# Altium footprint library Посадочное место.PcbLib: 3 footprints
Each footprint in its own frame and in the unit in brackets; x right, y up, seen from the top. Pads: shape width x height; smd on the part's side, far side on the other; paste and mask are expansions set on the pad; w line width, h text height; cw(c..) or ccw(c..) is an arc to the next point about the centre after c.
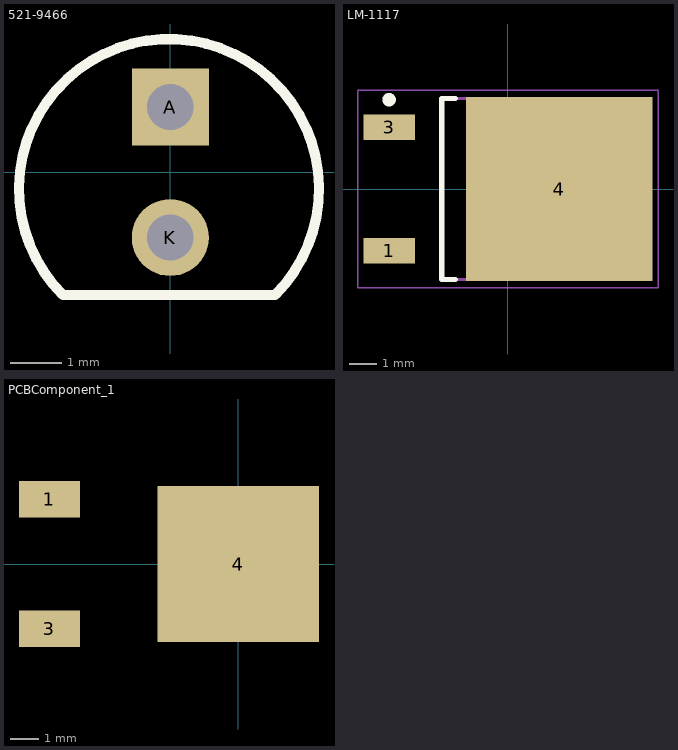
[diagram p0: the footprints below, top view; thin cyan lines are the x and y axes]

## 521-9466 [mm]
pads (2):
  rect 1.5x1.5 hole 0.9: A(0,1.27)
  round 1.5 hole 0.9: K(0,-1.27)
Top Overlay:
  lines w0.2: -2.09,-2.39 cw(c-0.025,-0.325) 2.04,-2.39 -2.09,-2.39
3D body "521-9466.step": height 10.71, standoff -0.6, extent -2.92,-2.415 2.92,2.92

## LM-1117 [mm] "D-PAK, 3-Pads, Body 6,20x6,72mm (max), IPC Medium Density"
height 2.38
pads (3):
  rect 1.9x0.95 smd: 1(-4.4,-2.28) 3(-4.4,2.28)
  rect 6.9x6.8 smd: 4(1.9,0)
Top Overlay:
  circle w0.25: c-4.4,3.305 r0.125
  lines w0.2: -1.95,-3.35 -2.45,-3.35 -2.45,3.35 -1.95,3.35
Mechanical 13:
  lines w0.1: -2.45,-3.35 3.75,-3.35 3.75,3.35 -2.45,3.35 -2.45,-3.35
Mechanical 15:
  lines w0.05: -5.55,-3.65 5.55,-3.65 5.55,3.65 -5.55,3.65 -5.55,-3.65
  lines w0.1: -0.5,0 0.5,0 ; 0,-0.5 0,0.5
3D body "DPAK228P970X238-3N.step": height 2.38, standoff 0, extent -4.415,-3.35 5.285,3.35

## PCBComponent_1 [mm]
pads (3):
  rect 2.15x1.3 all layers, no hole: 1(-6.665,2.285) 3(-6.665,-2.285)
  rect 5.7x5.5 all layers, no hole: 4(0,0)